# EAGLE library part LME49810 (library Audio-Power-amlifier V.2.0)
LME49810 200V Audio Power Amplifier Driver with Baker Clamp. The LME49810 is a high fidelity audio power amplifier driver designed for demanding consumer and pro-audio applications. Amplifier output power may be scaled by changing the supply voltage and number of power transistors. The LME49810’s minimum output current is 50mA. When using a discrete output stage the LME49810 is capable of delivering in excess of 300 watts into a single-ended 8Ω load.
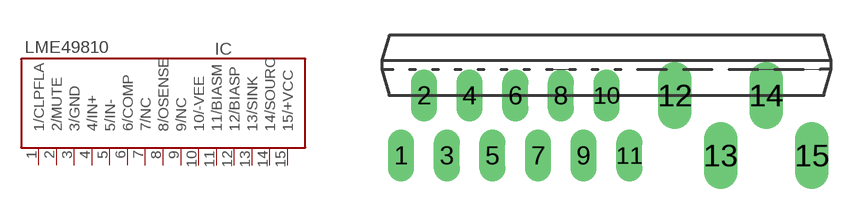
[diagram p183: symbol with the pads of PFM-TB15A; footprint PFM-TB15A]

Designator prefix IC

## LME49810  [PFM-TB15A]
1  1/CLPFLA  out
2  2/MUTE  in
3  3/GND  pwr
4  4/IN+  in
5  5/IN-  in
6  6/COMP
7  7/NC  nc
8  8/OSENSE  out
9  9/NC  nc
10  10/-VEE  pwr
11  11/BIASM
12  12/BIASP
13  13/SINK  out
14  14/SOURC  out
15  15/+VCC  pwr

## Footprint PFM-TB15A (pad centres in mm)
www.ti.com/audio
drill 0.6 long: 1 -8.685,-2.54; 2 -7.72,-0.001; 3 -6.754,-2.54; 4 -5.789,-0.001; 5 -4.824,-2.541; 6 -3.859,-0.001; 7 -2.894,-2.541; 8 -1.929,-0.001; 9 -0.964,-2.541; 10 0.001,-0.001; 11 0.966,-2.541
drill 0.6 pad 1.422 long: 12 2.896,-0.001; 13 4.826,-2.541; 14 6.756,-0.001; 15 8.686,-2.542